# Altium schematic symbol library B43547F2108M067.SchLib: 1 symbol
Pins are listed as number, name and electrical type; pins without a type are passive.

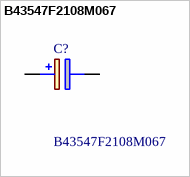
[diagram p0: symbol B43547F2108M067]

## B43547F2108M067
designator C?
Snap-in Capacitors, 1000?F/250VDC, 35mm dia x 40mm length; Manufacturer_Name: TDK; Geometry.Height: 42mm; Manufacturer_Part_Number: B43547F2108M067; Mouser Part Number: *; Mouser Price/Stock: *; Arrow Part Number: *; Arrow Price/Stock: *; Datasheet Link: https://product.tdk.com/system/files/dam/doc/product/capacitor/aluminum-electrolytic/snap-in/data_sheet/20/30/db/aec/b43547.pdf
footprint CAPPRD1000W190D3550H4200
pins: 1 +, 2 -